# Altium footprint library MB525.PcbLib: 47 footprints (part 3 of 3)
Each footprint in its own frame and in the unit in brackets; x right, y up, seen from the top. Pads: shape width x height; smd on the part's side, far side on the other; paste and mask are expansions set on the pad; w line width, h text height; cw(c..) or ccw(c..) is an arc to the next point about the centre after c.
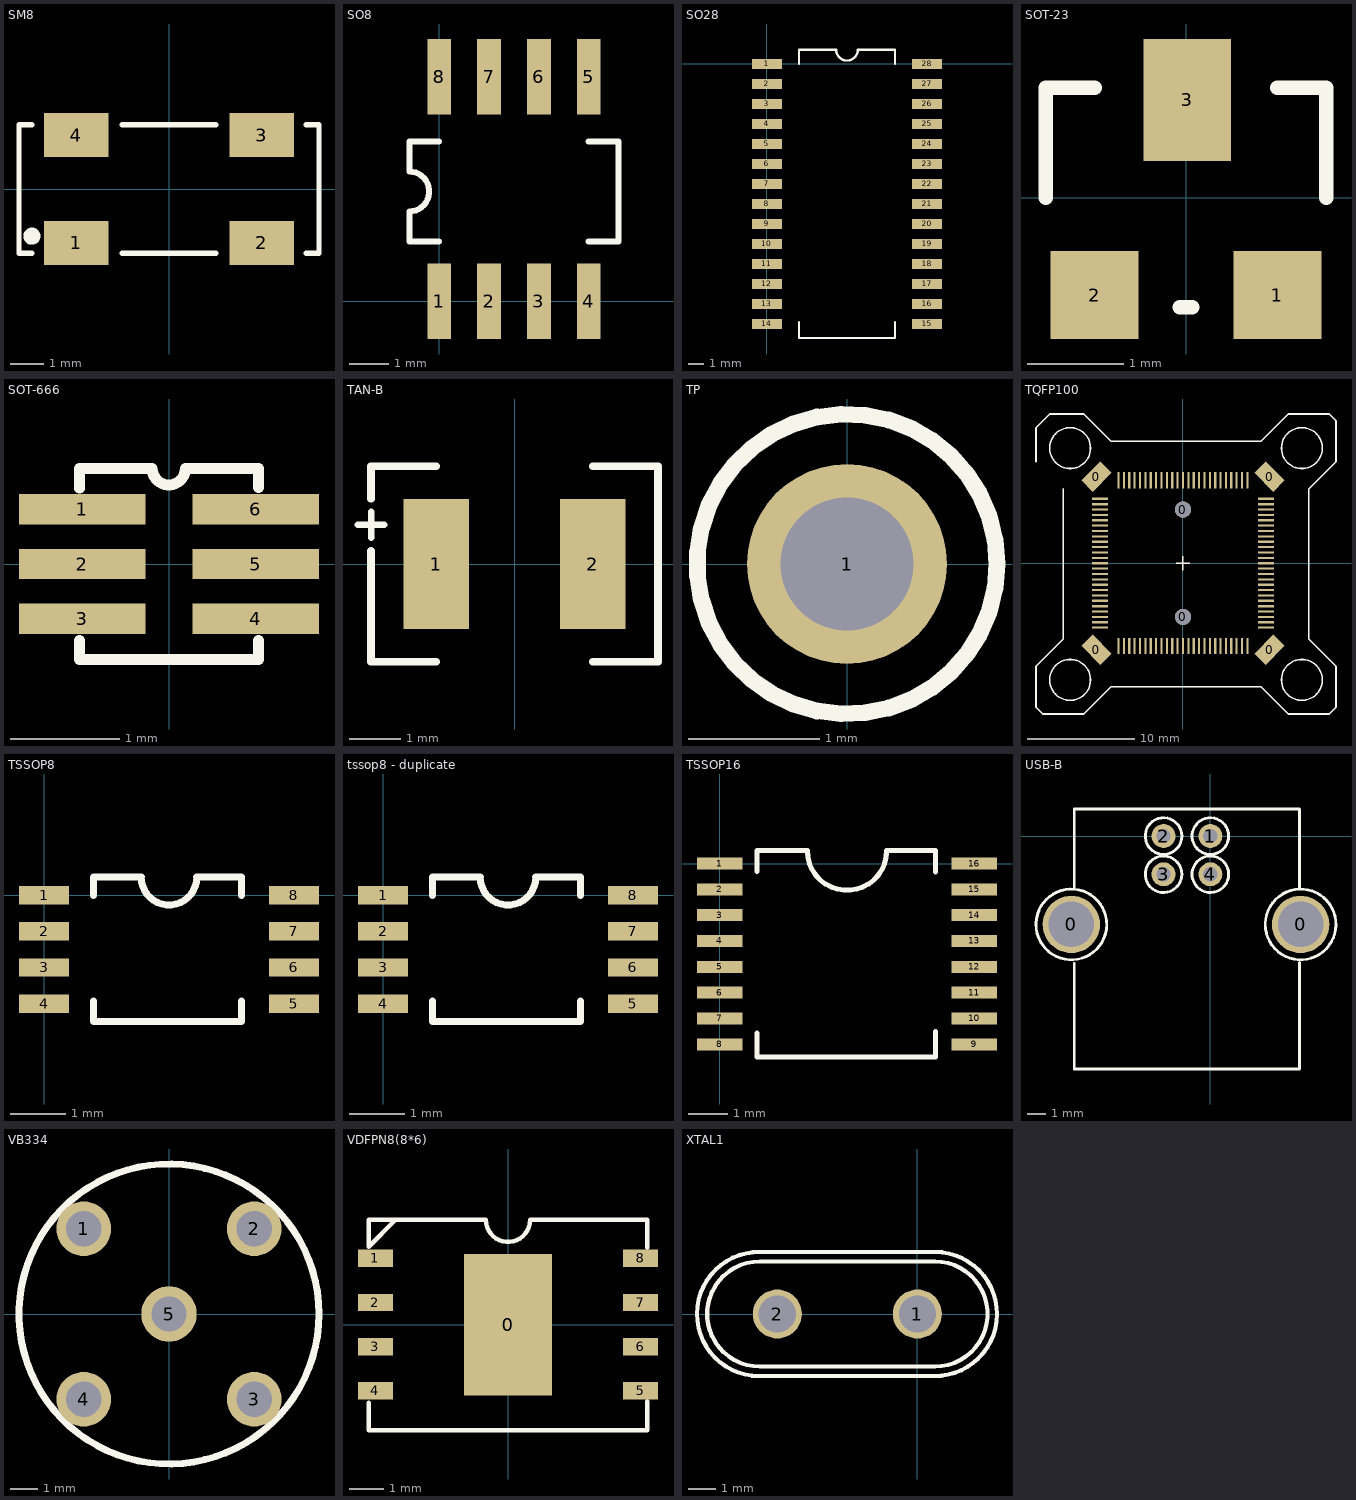
[diagram p2: the footprints below, top view; thin cyan lines are the x and y axes]

## SM8 [mm]
pads (4):
  rect 1.9x1.3 smd: 1(-2.75,-1.6) 2(2.75,-1.6) 3(2.75,1.6) 4(-2.75,1.6)
Top Overlay:
  circle w0.254: c-4.064,-1.397 r0.127
  lines w0.152: -4.064,-1.905 -4.445,-1.905 -4.445,1.905 -4.064,1.905 ; -1.397,-1.905 1.397,-1.905 ; -1.397,1.905 1.397,1.905 ; 4.064,-1.905 4.445,-1.905 4.445,-1.651 4.445,1.651 4.445,1.905 4.064,1.905

## SO8 [mil]
pads (8):
  rect 24x76 smd: 1(0,0) 2(50,0) 3(100,0) 4(150,0) 5(150,225) 6(100,225) 7(50,225) 8(0,225)
Top Overlay:
  lines w6: 0,60 -30,60 -30,90 ccw(c-30,110) -30,130 -30,160 0,160 ; 150,60 180,60 180,160 150,160

## SO28 [mil]
pads (28):
  rect 75x25 smd: 1(0,0) 2(0,-50) 3(0,-100) 4(0,-150) 5(0,-200) 6(0,-250) 7(0,-300) 8(0,-350) 9(0,-400) 10(0,-450) 11(0,-500) 12(0,-550) 13(0,-600) 14(0,-650) 15(400,-650) 16(400,-600) 17(400,-550) 18(400,-500) 19(400,-450) 20(400,-400) 21(400,-350) 22(400,-300) 23(400,-250) 24(400,-200) 25(400,-150) 26(400,-100) 27(400,-50) 28(400,0)
Top Overlay:
  lines w6: 80,-646 80,-685 320,-685 320,-645 ; 80,0 80,35 173.07,35 ccw(c200,35) 226.93,35 320,35 320,0

## SOT-23 [mil]
pads (3):
  rect 36x36 smd: 1(37.5,-40) 2(-37.5,-40)
  rect 36x50 smd: 3(0.5,40)
Top Overlay:
  lines w6: -57.5,0 -57.5,45 -37.5,45 ; -2.5,-45 2.5,-45 ; 37.5,45 57.5,45 57.5,0

## SOT-666 [mm]
pads (6):
  rect 1.16x0.279 smd: 1(-0.795,0.5) 2(-0.795,0) 3(-0.795,-0.5) 4(0.795,-0.5) 5(0.795,0) 6(0.795,0.5)
Top Overlay:
  lines w0.1: -0.821,-0.703 -0.821,-0.877 0.821,-0.877 0.821,-0.703 ; -0.821,0.694 -0.821,0.877 -0.154,0.877 ccw(c-0.002,0.877) 0.15,0.877 0.821,0.877 0.821,0.703

## TAN-B [mil]
pads (2):
  rect 50x100 smd: 1(-60,0) 2(60,0)
Top Overlay:
  lines w5: -120,30 -100,30 ; -110,20 -110,40
  lines w6: -110,10 -110,-75 -60,-75 ; -110,50 -110,75 ; -100,75 -110,75 ; -60,75 -110,75 ; 60,-75 110,-75 110,75 60,75

## TP [mil]
pads (1):
  round 60 hole 40: 1(0,0)
Top Overlay:
  circle w5: c0,0 r45

## TQFP100 [mm]
pads (106):
  rect 2.5x1.5 smd rot 135: 0(-8.06,-8.06) 0(8.06,8.06)
  rect 2.5x1.5 smd rot 45: 0(-8.06,8.06) 0(8.06,-8.06)
  round 1.5 hole 1.5 unplated: 0(0,-5) 0(0,5)
  rect 1.5x0.2 smd: 1(-7.725,6) 2(-7.725,5.5) 3(-7.725,5) 4(-7.725,4.5) 5(-7.725,4) 6(-7.725,3.5) 7(-7.725,3) 8(-7.725,2.5) 9(-7.725,2) 10(-7.725,1.5) 11(-7.725,1) 12(-7.725,0.5) 13(-7.725,0) 14(-7.725,-0.5) 15(-7.725,-1) 16(-7.725,-1.5) 17(-7.725,-2) 18(-7.725,-2.5) 19(-7.725,-3) 20(-7.725,-3.5) 21(-7.725,-4) 22(-7.725,-4.5) 23(-7.725,-5) 24(-7.725,-5.5) 25(-7.725,-6) 51(7.725,-6) 52(7.725,-5.5) 53(7.725,-5) 54(7.725,-4.5) 55(7.725,-4) 56(7.725,-3.5) 57(7.725,-3) 58(7.725,-2.5) 59(7.725,-2) 60(7.725,-1.5) 61(7.725,-1) 62(7.725,-0.5) 63(7.725,0) 64(7.725,0.5) 65(7.725,1) 66(7.725,1.5) 67(7.725,2) 68(7.725,2.5) 69(7.725,3) 70(7.725,3.5) 71(7.725,4) 72(7.725,4.5) 73(7.725,5) 74(7.725,5.5) 75(7.725,6)
  rect 0.2x1.5 smd: 26(-6,-7.725) 27(-5.5,-7.725) 28(-5,-7.725) 29(-4.5,-7.725) 30(-4,-7.725) 31(-3.5,-7.725) 32(-3,-7.725) 33(-2.5,-7.725) 34(-2,-7.725) 35(-1.5,-7.725) 36(-1,-7.725) 37(-0.5,-7.725) 38(0,-7.725) 39(0.5,-7.725) 40(1,-7.725) 41(1.5,-7.725) 42(2,-7.725) 43(2.5,-7.725) 44(3,-7.725) 45(3.5,-7.725) 46(4,-7.725) 47(4.5,-7.725) 48(5,-7.725) 49(5.5,-7.725) 50(6,-7.725) 76(6,7.725) 77(5.5,7.725) 78(5,7.725) 79(4.5,7.725) 80(4,7.725) 81(3.5,7.725) 82(3,7.725) 83(2.5,7.725) 84(2,7.725) 85(1.5,7.725) 86(1,7.725) 87(0.5,7.725) 88(0,7.725) 89(-0.5,7.725) 90(-1,7.725) 91(-1.5,7.725) 92(-2,7.725) 93(-2.5,7.725) 94(-3,7.725) 95(-3.5,7.725) 96(-4,7.725) 97(-4.5,7.725) 98(-5,7.725) 99(-5.5,7.725) 100(-6,7.725)
Top Overlay:
  circle w0.152: c-10.515,10.724 r1.905
  circle w0.152: c-10.515,-10.866 r1.905
  circle w0.152: c11.075,-10.866 r1.905
  circle w0.152: c11.075,10.724 r1.905
  lines w0.127: -0.635,0 0.635,0 ; 0,-0.635 0,0.635
  lines w0.152: -13.69,9.454 -13.69,12.629 -12.42,13.899 -9.245,13.899 -6.705,11.359 7.265,11.359 9.805,13.899 13.615,13.899 14.25,13.264 14.25,9.454 11.71,6.914 11.71,-7.056 14.25,-9.596 14.25,-13.406 13.615,-14.041 9.805,-14.041 7.265,-11.501 -6.705,-11.501 -9.245,-14.041 -13.055,-14.041 -13.69,-13.406 -13.69,-9.596 -11.15,-7.056 -11.15,6.914

## TSSOP8 [mm]
pads (8):
  rect 0.9x0.33 smd: 1(0,0) 2(0,-0.65) 3(0,-1.3) 4(0,-1.95) 5(4.5,-1.95) 6(4.5,-1.3) 7(4.5,-0.65) 8(4.5,0)
Top Overlay:
  lines w0.127: 0.889,-1.905 0.889,-2.275 3.556,-2.275 3.556,-1.905 ; 0.889,0 0.889,0.325 1.75,0.325 ccw(c2.25,0.325) 2.75,0.325 3.556,0.325 3.556,0

## tssop8 - duplicate [mm]
pads (8):
  rect 0.9x0.33 smd: 1(0,0) 2(0,-0.65) 3(0,-1.3) 4(0,-1.95) 5(4.5,-1.95) 6(4.5,-1.3) 7(4.5,-0.65) 8(4.5,0)
Top Overlay:
  lines w0.127: 0.889,-1.905 0.889,-2.275 3.556,-2.275 3.556,-1.905 ; 0.889,0 0.889,0.325 1.75,0.325 ccw(c2.25,0.325) 2.75,0.325 3.556,0.325 3.556,0

## TSSOP16 [mm]
pads (16):
  rect 1.15x0.3 smd: 1(0,0) 2(0,-0.65) 3(0,-1.3) 4(0,-1.95) 5(0,-2.6) 6(0,-3.25) 7(0,-3.9) 8(0,-4.55) 9(6.4,-4.55) 10(6.4,-3.9) 11(6.4,-3.25) 12(6.4,-2.6) 13(6.4,-1.95) 14(6.4,-1.3) 15(6.4,-0.65) 16(6.4,0)
Top Overlay:
  lines w0.127: 0.937,-4.27 0.937,-4.875 5.423,-4.875 5.423,-4.229 ; 0.937,-0.206 0.937,0.325 2.2,0.325 ccw(c3.2,0.325) 4.2,0.325 5.423,0.325 5.423,-0.216

## USB-B [mil]
pads (6):
  round 120 hole 95: 0(-291,-185) 0(189,-185)
  round 50 hole 30: 1(0,0) 2(-98,0) 3(-98,-80) 4(0,-80)
Top Overlay:
  circle w6: c-98,0 r38.3
  circle w6: c-98,-80 r38.3
  circle w6: c0,0 r38.3
  circle w6: c0,-80 r38.3
  lines w6: -365.04,-185 ccw(c-291,-185) -365,-182.5 ; -285,-266.5 -285,-488 187,-488 187,-264.5 ; -285,-108.5 -285,57 187,57 187,-110.5 ; 114.96,-185 ccw(c189,-185) 115,-182.5

## VB334 [mm]
pads (5):
  round 2 hole 1.3: 1(-3.125,3.125) 2(3.125,3.125) 3(3.125,-3.125) 4(-3.125,-3.125)
  round 2.032 hole 1.27: 5(0,0)
Top Overlay:
  circle w0.254: c0,0 r5.5

## VDFPN8(8*6) [mm]
pads (9):
  rect 2.54x4.064 smd: 0(0,0)
  rect 1x0.5 smd: 1(-3.81,1.905) 2(-3.81,0.635) 3(-3.81,-0.635) 4(-3.81,-1.905) 5(3.81,-1.905) 6(3.81,-0.635) 7(3.81,0.635) 8(3.81,1.905)
Top Overlay:
  lines w0.127: -4,-2.24 -4,-3.035 4,-3.035 4,-2.205 ; -3.23,3.01 -4,2.24 -4,3.01 -0.635,3.01 ccw(c0,3.01) 0.635,3.01 4,3.01 4,2.205

## XTAL1 [mil]
pads (2):
  round 70 hole 53: 1(0,0) 2(-200,0)
Top Overlay:
  lines w6: -226,-88.58 cw(c-226,0) -225.09,88.58 25,88.58 cw(c25,0) 24.07,-88.58 -226,-88.58 ; -225,-75 cw(c-225,0) -225,75 25,75 cw(c25,0) 25,-75 -225,-75